# Altium footprint library ArduMan_Components.PcbLib: 17 footprints (part 2 of 2)
Each footprint in its own frame and in the unit in brackets; x right, y up, seen from the top. Pads: shape width x height; smd on the part's side, far side on the other; paste and mask are expansions set on the pad; w line width, h text height; cw(c..) or ccw(c..) is an arc to the next point about the centre after c.
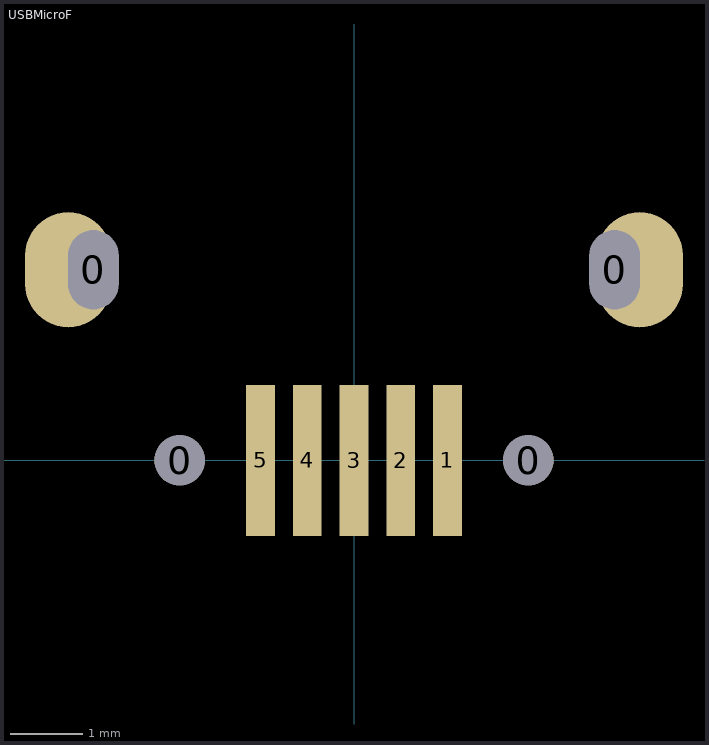
[diagram p1: the footprint, top view; thin cyan lines are the x and y axes]

## USBMicroF [mm] "USB Micro Slot Female"
pads (9):
  rrect100% 1.2x1.6 hole 0.7 slot 1.1 at 90 deg copper offset -0.35,0: 0(-3.625,2.65)
  round 0.7 hole 0.7 mask+0: 0(-2.425,0) 0(2.425,0)
  rrect100% 1.2x1.6 hole 0.7 slot 1.1 at 90 deg copper offset 0.35,0: 0(3.625,2.65)
  rect 0.4x2.1 smd: 1(1.3,0) 2(0.65,0) 3(0,0) 4(-0.65,0) 5(-1.3,0)
3D body "USBMicroF.SLDPRT": height 2.6, standoff -0.9, extent -3.8,-0.26 3.8,4.8